# EAGLE library part BSS138DWQ (library ToF-Module)
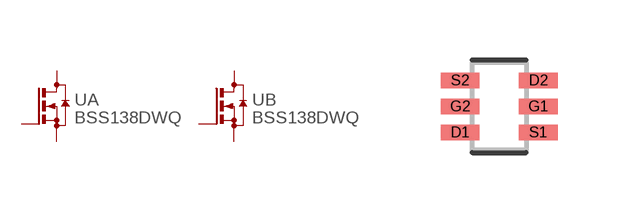
[diagram p1: symbol with the pads of SOT65P210X110-6; footprint SOT65P210X110-6]

Designator prefix U; gates A=N-MOS B=N-MOS

## BSS138DWQ (MANF: BSS138DWQ-7; MOUSER: 621-BSS138DWQ-7)  [SOT65P210X110-6]
D1  A:D  pas
D2  B:D  pas
G1  A:G  pas
G2  B:G  pas
S1  A:S  pas
S2  B:S  pas

## Footprint SOT65P210X110-6 (pad centres in mm)
6-SOT23, 0.65 mm pitch, 2.10 mm span, 2.00 X 1.25 X 1.10 mm body 6-pin SOT23 package with 0.65 mm pitch, 2.10 mm span with body size 2.00 X 1.25 X 1.10 mm
smd 0.973 x 0.389: D1 -0.978,-0.65; D2 0.978,0.65; G1 0.978,0; G2 -0.978,0; S1 0.978,-0.65; S2 -0.978,0.65